# Altium footprint library Transistors - FETs, MOSFETs - Single.PcbLib: 1 footprints
Each footprint in its own frame and in the unit in brackets; x right, y up, seen from the top. Pads: shape width x height; smd on the part's side, far side on the other; paste and mask are expansions set on the pad; w line width, h text height; cw(c..) or ccw(c..) is an arc to the next point about the centre after c.
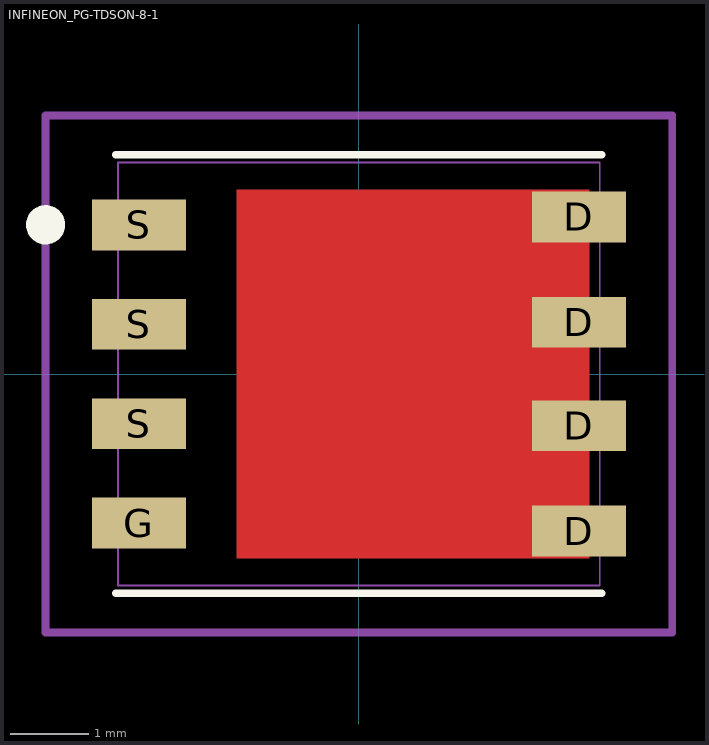
[diagram p0: the footprint, top view; thin cyan lines are the x and y axes]

## INFINEON_PG-TDSON-8-1 [mm]
pads (8):
  rect 1.2x0.65 smd paste+0 mask+0.04: D(2.81,-2.007) D(2.81,-0.66) D(2.81,0.66) D(2.81,2.007) G(-2.809,-1.905) S(-2.809,-0.635) S(-2.809,0.635) S(-2.809,1.905)
Top Layer:
  region: 2.941,2.35 -1.559,2.35 -1.559,-2.35 2.941,-2.35
Top Overlay:
  circle w0.25: c-4,1.905 r0.125
  lines w0.1: -3.1,-2.8 3.1,-2.8 ; -3.1,2.8 3.1,2.8
Mechanical 13:
  lines w0.025: -3.075,-2.7 -3.075,2.7 3.075,2.7 3.075,-2.7 -3.075,-2.7
Mechanical 15:
  circle w0.05: c0,0 r0.234
  lines w0.05: -0.312,0 0.312,0 ; 0,-0.312 0,0.312
  lines w0.1: -4,-3.3 -4,3.3 4,3.3 4,-3.3 -4,-3.3
3D body "PG-TDSON-8-1_C63078-A6557-C001-10-0004.stp": height 1.01, standoff 0, extent -3.075,-2.695 3.075,2.695